# Altium schematic symbol library modulo_comunicacion_schlib.SchLib: 9 symbols
Pins are listed as number, name and electrical type; pins without a type are passive.

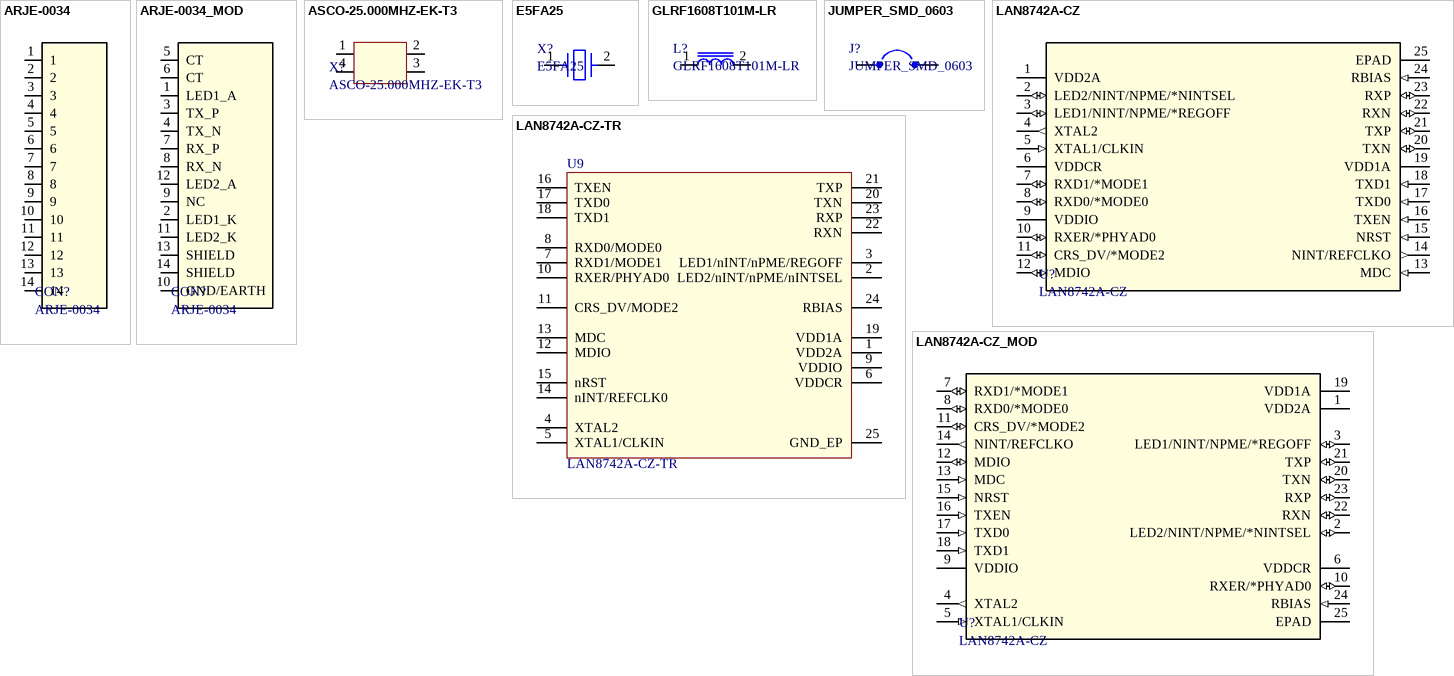
[diagram p0: symbols ARJE-0034 to LAN8742A-CZ_MOD]

## ARJE-0034
designator CON?
CONECTOR RJ45 MAGNETICO; Manufacturer: Abracon; Current Rating: 8mA; Direction: Up; Gender: Male; Number of Contacts: 8; Number of Cores per Jack: 4; Number of Ports: 1; Number of Positions: 12; Pitch: 1.02mm; Shielding: Shielded; Category: Modular / Ethernet Connectors; Color: Green,Yellow; Connector Type: RJ45; Lead Free: Lead Free; Manufacturer Part Number: ARJE-0034; Max Operating Temperature: 70°C; Min Operating Temperature: 0°C; Mount: Surface Mount; Number of Rows: 1; Orientation: Right Angle; Package Quantity: 1; Packaging: Tape and Reel; Radiation Hardening: No; Termination: Solder
footprint ARJE-0034
pins: 1, 2, 3, 4, 5, 6, 7, 8, 9, 10, 11, 12, 13 (power), 14 (power)

## ARJE-0034_MOD
designator CON?, comment ARJE-0034
CONECTOR RJ45 MAGNETICO; Manufacturer: Abracon; Current Rating: 8mA; Direction: Up; Gender: Male; Number of Contacts: 8; Number of Cores per Jack: 4; Number of Ports: 1; Number of Positions: 12; Pitch: 1.02mm; Shielding: Shielded; Category: Modular / Ethernet Connectors; Color: Green,Yellow; Connector Type: RJ45; Lead Free: Lead Free; Manufacturer Part Number: ARJE-0034; Max Operating Temperature: 70°C; Min Operating Temperature: 0°C; Mount: Surface Mount; Number of Rows: 1; Orientation: Right Angle; Package Quantity: 1; Packaging: Tape and Reel; Radiation Hardening: No; Termination: Solder
footprint ARJE-0034
pins: 1 LED1_A, 2 LED1_K, 3 TX_P, 4 TX_N, 5 CT, 6 CT, 7 RX_P, 8 RX_N, 9 NC, 10 GND/EARTH, 11 LED2_K, 12 LED2_A, 13 SHIELD (power), 14 SHIELD (power)

## ASCO-25.000MHZ-EK-T3
designator X?
Manufacturer: Abracon; Frequency: 25MHz; Frequency Stability: 30ppm; Load Capacitance: 15pF; Max Supply Current: 6mA; Max Supply Voltage: 3.63V; Min Supply Voltage: 2.97V; Operating Supply Voltage: 3.3V; Width: 0.047inch; Case/Package: SMD/SMT; Category: Oscillators; Height: 0.028inch; Length: 0.063inch; Manufacturer Part Number: ASCO-25.000MHZ-EK-T3; Max Operating Temperature: 70°C; Min Operating Temperature: -20°C; Mount: Surface Mount; Number of Pins: 4; Package Quantity: 3000; Packaging: Tape and Reel; Termination: SMD/SMT
footprint ASCO-25.000MHZ-EK-T3
pins: 1 TS, 2 GND (power), 3 OUTPUT, 4 VDD (power)

## E5FA25
designator X?
E5FA 25.0000 F15 E33
footprint E5FA25
pins: 1, 2

## GLRF1608T101M-LR
designator L?
FIXED IND 100UH 80MA 5.5 OHM SMD; Manufacturer: TDK; Manufacturer Part Number: GLFR1608T101M-LR; Current Rating: 25mA; DC Resistance (DCR): 5.5R; Shielding: Shielded; Tolerance: 20%; Case Code (Imperial): 0603; Case Code (Metric): 1608; Case/Package: 0603; Category: Fixed Inductors; DC Current: 80mA; Depth: 1mm; Height: 0.031inch; Inductance: 100uH; Lead Free: Lead Free; Length: 0.063inch; Max DC Current: 80mA; Max Operating Temperature: 105°C; Military Standard: Not; Min Operating Temperature: -40°C; Mount: Surface Mount; Package Quantity: 4000; Packaging: Tape and Reel; Saturation Current: 25mA; Termination: SMD/SMT; Width: 0.8mm; Supplier 1: Digi-Key; RoHS: Yes; Stock 1: 31108; Pricing 1: 1=0,27000, 10=0,24400, 100=0,16760, 500=0,14324, 1000=0,10971 (USD); ComponentLink1URL: https://datasheet.ciiva.com/1040/glfrseries-1040797.pdf?src-supplier=Digi-Key; ComponentLink1Description: https://datasheet.ciiva.com/1040/glfrseries-1040797.pdf?src-supplier=Digi-Key; ComponentLink2URL: https://datasheet.ciiva.com/1040/glfrseries-1040798.pdf?src-supplier=Digi-Key; ComponentLink2Description: https://datasheet.ciiva.com/1040/glfrseries-1040798.pdf?src-supplier=Digi-Key; ComponentLink3URL: https://datasheet.ciiva.com/1040/glfrseries-1040799.pdf?src-supplier=Digi-Key; ComponentLink3Description: https://datasheet.ciiva.com/1040/glfrseries-1040799.pdf?src-supplier=Digi-Key
footprint GLRF1608T101M-LR
pins: 1, 2

## JUMPER_SMD_0603
designator J?
footprint JUMPER_SMD_0603
pins: 1, 2

## LAN8742A-CZ
designator U?
IC TRANSCEIVER 1/1 24SQFN; Manufacturer: Microchip; Manufacturer Part Number: LAN8742A-CZ; Category: Interface ICs
footprint LAN8742A-CZ
pins: 1 VDD2A (power), 2 LED2/NINT/NPME/*NINTSEL (io), 3 LED1/NINT/NPME/*REGOFF (io), 4 XTAL2 (out), 5 XTAL1/CLKIN (in), 6 VDDCR (power), 7 RXD1/*MODE1 (io), 8 RXD0/*MODE0 (io), 9 VDDIO (power), 10 RXER/*PHYAD0 (io), 11 CRS_DV/*MODE2 (io), 12 MDIO (io), 13 MDC (in), 14 NINT/REFCLKO (out), 15 NRST (in), 16 TXEN (in), 17 TXD0 (in), 18 TXD1 (in), 19 VDD1A (power), 20 TXN (io), 21 TXP (io), 22 RXN (io), 23 RXP (io), 24 RBIAS (in), 25 EPAD

## LAN8742A-CZ-TR
designator U9
LAN8742A-CZ-TR - Small Footprint RMII 10/100 Ethernet, Transceiver with HP Auto-MDIX and flexPWR Technology SQFN-24; Manuf_1: MICROCHIP; Order: LAN8742A-CZ-TR; Manuf_Part_1: LAN8742A-CZ-TR; Distrib: MICROCHIP
footprint LAN8742A-CZ
pins: 1 VDD2A, 2 LED2/nINT/nPME/nINTSEL, 3 LED1/nINT/nPME/REGOFF, 4 XTAL2, 5 XTAL1/CLKIN, 6 VDDCR, 7 RXD1/MODE1, 8 RXD0/MODE0, 9 VDDIO, 10 RXER/PHYAD0, 11 CRS_DV/MODE2, 12 MDIO, 13 MDC, 14 nINT/REFCLK0, 15 nRST, 16 TXEN, 17 TXD0, 18 TXD1, 19 VDD1A, 20 TXN, 21 TXP, 22 RXN, 23 RXP, 24 RBIAS, 25 GND_EP

## LAN8742A-CZ_MOD
designator U?, comment LAN8742A-CZ
IC TRANSCEIVER 1/1 24SQFN; Manufacturer: Microchip; Manufacturer Part Number: LAN8742A-CZ; Category: Interface ICs
footprint LAN8742A-CZ
pins: 1 VDD2A (power), 2 LED2/NINT/NPME/*NINTSEL (io), 3 LED1/NINT/NPME/*REGOFF (io), 4 XTAL2 (out), 5 XTAL1/CLKIN (in), 6 VDDCR (power), 7 RXD1/*MODE1 (io), 8 RXD0/*MODE0 (io), 9 VDDIO (power), 10 RXER/*PHYAD0 (io), 11 CRS_DV/*MODE2 (io), 12 MDIO (io), 13 MDC (in), 14 NINT/REFCLKO (out), 15 NRST (in), 16 TXEN (in), 17 TXD0 (in), 18 TXD1 (in), 19 VDD1A (power), 20 TXN (io), 21 TXP (io), 22 RXN (io), 23 RXP (io), 24 RBIAS (in), 25 EPAD